# EAGLE library part LM75BDP (library NXP_By_element14_Batch_1)
Digital temperature sensor and thermal watchdog
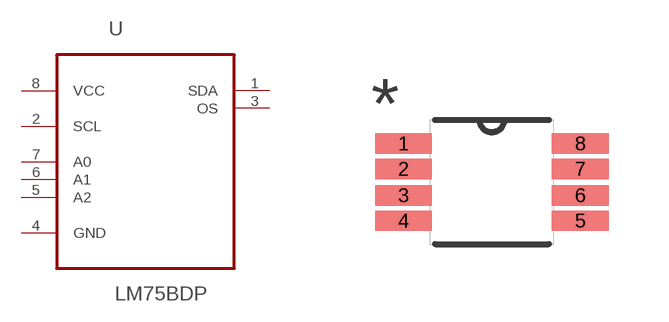
[diagram p308: symbol with the pads of SOP65P490X110-8N; footprint SOP65P490X110-8N]

Designator prefix U

## LM75BDP (MPN: LM75BDP; OC_FARNELL: 1854079; OC_NEWARK: 30T2200; PACKAGE: TSSOP-8; SUPPLIER: NXP)  [SOP65P490X110-8N]
1  SDA
2  SCL  in
3  OS  out
4  GND  pas
5  A2  in
6  A1  in
7  A0  in
8  VCC  pwr

## Footprint SOP65P490X110-8N (pad centres in mm)
smd 1.422 x 0.508: 1 -2.21,0.965; 2 -2.21,0.33; 3 -2.21,-0.33; 4 -2.21,-0.965; 5 2.21,-0.965; 6 2.21,-0.33; 7 2.21,0.33; 8 2.21,0.965